# Altium schematic symbol library SPM6530T-1R0M120.SchLib: 1 symbol
Pins are listed as number, name and electrical type; pins without a type are passive.

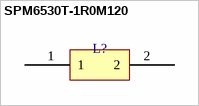
[diagram p0: symbol SPM6530T-1R0M120]

## SPM6530T-1R0M120
designator L?  (value not drawn)
footprint SPM6530T-1R0M120
pins: 1, 2